# Altium footprint library PCB - CAPACITOR - ALUMINIUM - CAP ALSMD ELEC 10.3MM H14.5MM.pcblib: 1 footprints
Each footprint in its own frame and in the unit in brackets; x right, y up, seen from the top. Pads: shape width x height; smd on the part's side, far side on the other; paste and mask are expansions set on the pad; w line width, h text height; cw(c..) or ccw(c..) is an arc to the next point about the centre after c.
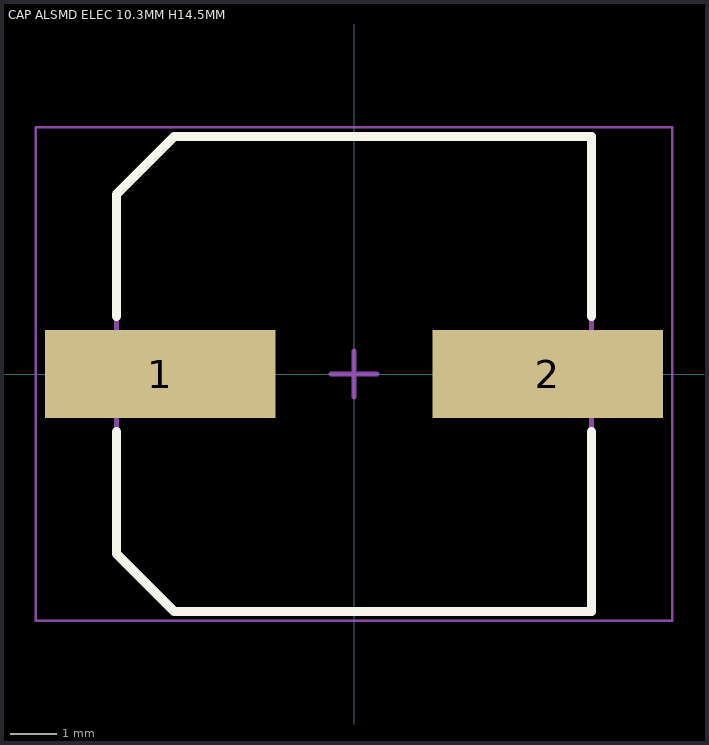
[diagram p0: the footprint, top view; thin cyan lines are the x and y axes]

## CAP ALSMD ELEC 10.3MM H14.5MM [mm] "Aluminum SMD Electrolytic Capacitor, 10.30mm Land Size, 10.00mm Diameter, 14.50mm Height, 10.90mm Maximum Leads Span"
height 0.95
pads (2):
  rect 5x1.9 smd: 1(-4.2,0) 2(4.2,0)
Top Overlay:
  lines w0.2: -5.15,-1.25 -5.15,-3.9 -3.9,-5.15 5.15,-5.15 5.15,-1.25 ; -5.15,1.25 -5.15,3.9 -3.9,5.15 5.15,5.15 5.15,1.25
Mechanical 13:
  lines w0.1: -5.15,-3.9 -5.15,3.9 -3.9,5.15 5.15,5.15 5.15,-5.15 -3.9,-5.15 -5.15,-3.9
Mechanical 15:
  lines w0.05: -6.9,-5.35 -6.9,5.35 6.9,5.35 6.9,-5.35 -6.9,-5.35
  lines w0.1: -0.5,0 0.5,0 ; 0,-0.5 0,0.5
3D body: height 14.5, standoff 0, extent -5.45,-5.15 5.45,5.15